# Altium integrated library S3B-XH-A_LF__SN_.IntLib: 1 symbol
Pins are listed as number, name and electrical type; pins without a type are passive.

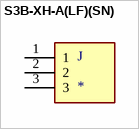
[diagram p0: symbol S3B-XH-A(LF)(SN)]

## S3B-XH-A(LF)(SN)
designator J
Connector Header Through Hole, Right Angle 3 position 0.098 _2.50mm_; MP: S3B-XH-A_LF__SN_; MF: JST Sales; SnapEDA_Link: https://www.snapeda.com/parts/S3B-XH-A%28LF%29%28SN%29/JST%20Sales%20America%20Inc./view-part/46873/?ref=snap; Availability: Unavailable; Package: FakePackage u; Value: *; Price: None
footprint JST_S3B-XH-A(LF)(SN)
footprint JST_S3B-XH-A(LF)(SN)
footprint JST_S3B-XH-A(LF)(SN)
pins: 1, 2, 3